# Altium schematic symbol library util.SchLib: 3 symbols
Pins are listed as number, name and electrical type; pins without a type are passive.

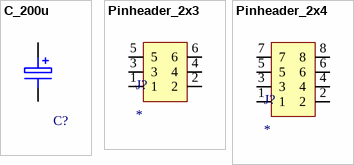
[diagram p0: symbols C_200u to Pinheader_2x4]

## C_200u
designator C?
Supplier 1: Digi-Key; Supplier Part Number 1: 493-6390-1-ND
footprint UCD1H221MNL1GS
pins: 1, 2

## Pinheader_2x3
designator J?
Supplier 1: Rs; Supplier Part Number 1: 8281522P
footprint 61300621121
pins: 1, 2, 3, 4, 5, 6

## Pinheader_2x4
designator J?
Supplier 1: Rs; Supplier Part Number 1: 8281522P
footprint 61300821121
pins: 1, 2, 3, 4, 5, 6, 7, 8